# EAGLE library part ICTL100A (library CubeSat_OBC_Library)
74LVC138AD 3-8 decoder SOIC16 Max 125C
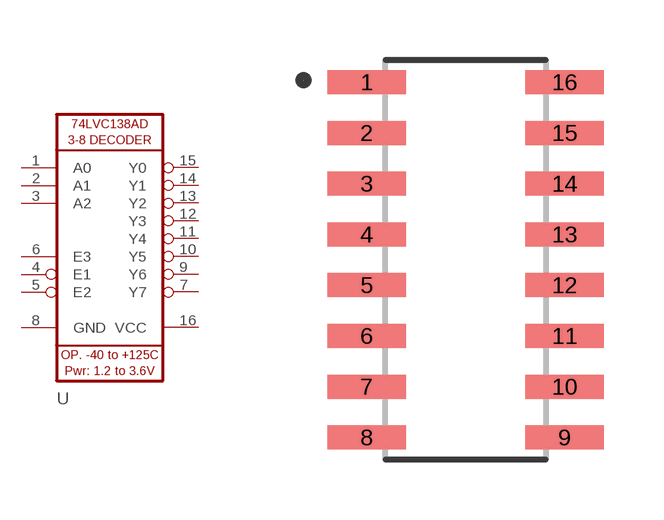
[diagram p6: symbol with the pads of SOIC-16; footprint SOIC-16]

Designator prefix U

## ICTL100A_74LVC138AD_3-8_DECODER (TYPE: 74LVC138)  [SOIC-16]
1  A0  in
2  A1  in
3  A2  in
4  E1  in
5  E2  in
6  E3  in
7  Y7  out
8  GND  pwr
9  Y6  out
10  Y5  out
11  Y4  out
12  Y3  out
13  Y2  out
14  Y1  out
15  Y0  out
16  VCC  pwr

## Footprint SOIC-16 (pad centres in mm)
smd 1.97 x 0.6: 1 -2.475,4.445; 2 -2.475,3.175; 3 -2.475,1.905; 4 -2.475,0.635; 5 -2.475,-0.635; 6 -2.475,-1.905; 7 -2.475,-3.175; 8 -2.475,-4.445; 9 2.475,-4.445; 10 2.475,-3.175; 11 2.475,-1.905; 12 2.475,-0.635; 13 2.475,0.635; 14 2.475,1.905; 15 2.475,3.175; 16 2.475,4.445